# EAGLE library part TPS62143RGTR (library range_cape)
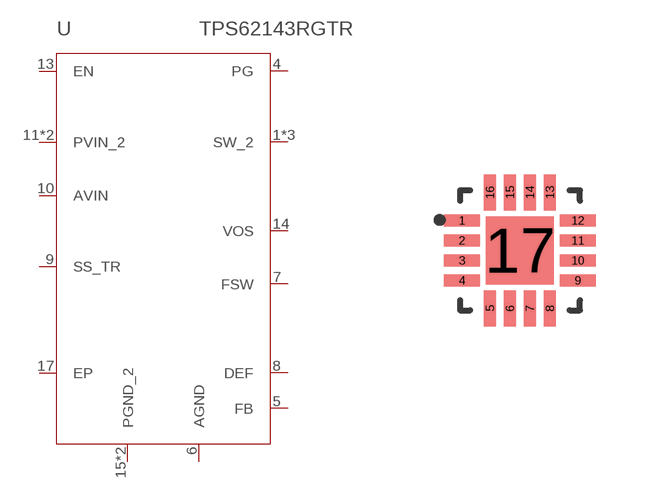
[diagram p0: symbol with the pads of S-PVQFN-N16; footprint S-PVQFN-N16]

Designator prefix U

## TPS62143RGTR (DATASHEETURL: http://www.ti.com/product/tps62131; FREQUENCY: 2500000.0; IMAX: 3.0; MANUFACTURER_PART_NUMBER: TPS62131RGTR; MKTG_PACKAGE: S-PVQFN-N16; NSID: TPS62131RGTR; PACKAGE: S-PVQFN-N16; VENDOR: Texas Instruments)  [S-PVQFN-N16]
1  SW_2  pas
2  SW_2  pas
3  SW_2  pas
4  PG  pas
5  FB  pas
6  AGND  pas
7  FSW  pas
8  DEF  pas
9  SS_TR  pas
10  AVIN  pas
11  PVIN_2  pas
12  PVIN_2  pas
13  EN  pas
14  VOS  pas
15  PGND_2  pas
16  PGND_2  pas
17  EP  pas

## Footprint S-PVQFN-N16 (pad centres in mm)
smd 0.908 x 0.305: 1 -1.45,0.75; 2 -1.45,0.25; 3 -1.45,-0.25; 4 -1.45,-0.75; 9 1.45,-0.75; 10 1.45,-0.25; 11 1.45,0.25; 12 1.45,0.75
smd 0.305 x 0.908: 5 -0.75,-1.45; 6 -0.25,-1.45; 7 0.25,-1.45; 8 0.75,-1.45; 13 0.75,1.45; 14 0.25,1.45; 15 -0.25,1.45; 16 -0.75,1.45
smd 1.702 x 1.702: 17 0,0